# Altium schematic symbol library 1825264-2.SchLib: 1 symbol
Pins are listed as number, name and electrical type; pins without a type are passive.

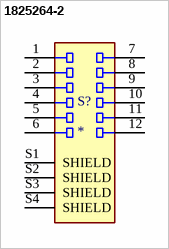
[diagram p0: symbol 1825264-2]

## 1825264-2
designator S?
Switch Slide 4PDT Extended Top Slide 20VAC 20VDC 0.4VA PC Pins Thru-Hole Tray; MF: {'manufacturer': u'TE Connectivity'}; MP: 1825264-2; Package: None; Price: None; Value: *; Availability: Unavailable
footprint SW_1825264-2
pins: 1, 2, 3, 4, 5, 6, 7, 8, 9, 10, 11, 12, S1 SHIELD, S2 SHIELD, S3 SHIELD, S4 SHIELD